# EAGLE library part LM2575 (library custom)
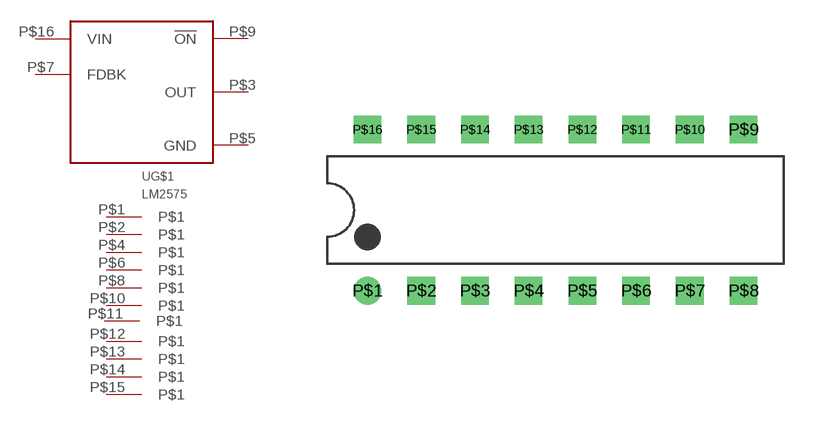
[diagram p8: symbol with the pads of DIP16_300; footprint DIP16_300]

Designator prefix -; gates G$1=LM2575 G$2=1PINGATE G$3=1PINGATE G$4=1PINGATE G$5=1PINGATE G$6=1PINGATE G$7=1PINGATE G$8=1PINGATE G$9=1PINGATE G$10=1PINGATE G$11=1PINGATE G$12=1PINGATE

## LM2575  [DIP16_300]
P$1  G$2:P$1
P$2  G$3:P$1
P$3  G$1:OUT  out
P$4  G$4:P$1
P$5  G$1:GND  pwr
P$6  G$5:P$1
P$7  G$1:FDBK  in
P$8  G$6:P$1
P$9  G$1:!ON  in
P$10  G$7:P$1
P$11  G$8:P$1
P$12  G$9:P$1
P$13  G$10:P$1
P$14  G$11:P$1
P$15  G$12:P$1
P$16  G$1:VIN  in

## Footprint DIP16_300 (pad centres in mm)
drill 0.8 round: P$1 -8.89,-3.81
drill 0.8 square: P$2 -6.35,-3.81; P$3 -3.81,-3.81; P$4 -1.27,-3.81; P$5 1.27,-3.81; P$6 3.81,-3.81; P$7 6.35,-3.81; P$8 8.89,-3.81; P$9 8.89,3.81; P$10 6.35,3.81; P$11 3.81,3.81; P$12 1.27,3.81; P$13 -1.27,3.81; P$14 -3.81,3.81; P$15 -6.35,3.81; P$16 -8.89,3.81